# Altium schematic symbol library 方孔.SchLib: 1 symbol
Pins are listed as number, name and electrical type; pins without a type are passive.

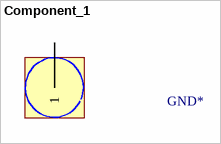
[diagram p0: symbol Component_1]

## Component_1
designator GND*, comment TEST  (value not drawn)
pins: 1